# Altium schematic symbol library AD39x.Schlib: 1 symbol
Pins are listed as number, name and electrical type; pins without a type are passive.

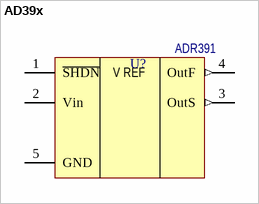
[diagram p0: symbol AD39x]

## AD39x
designator U?  Наименование: ADR391  (hidden comment: AD39x)
Micropower, Low Noise Precision Voltage / References with Shutdown; Потрбление, Вт: 0,001; Назначение: Micropower, Low Noise Precision Voltage; ComponentLink1Description: DataSheet; ComponentLink1URL: https://www.analog.com/media/en/technical-documentation/data-sheets/ADR391_392_395.pdf
footprint TSOT-5
pins: 1 ~{SHDN}, 2 Vin (power), 3 OutS (out), 4 OutF (out), 5 GND (power)
text: V REF